# EAGLE library part MOTORDRIVER-NEW (library KIKS)
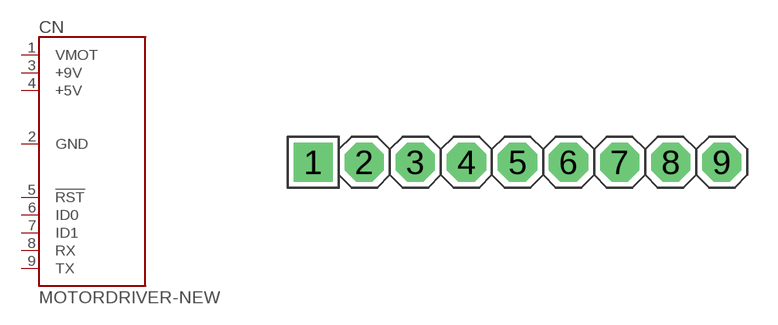
[diagram p2: symbol with the pads of PIN1X9; footprint PIN1X9]

Designator prefix CN

## MOTORDRIVER-NEW  [PIN1X9]
1  VMOT
2  GND
3  +9V
4  +5V
5  !RST
6  ID0
7  ID1
8  RX
9  TX

## Footprint PIN1X9 (pad centres in mm)
drill 1.3 square: 1 -10.16,0
drill 1.3 octagon: 2 -7.62,0; 3 -5.08,0; 4 -2.54,0; 5 0,0; 6 2.54,0; 7 5.08,0; 8 7.62,0; 9 10.16,0